# Altium integrated library WD Peripheral Data Encryption Processor.IntLib: 12 symbols
Pins are listed as number, name and electrical type; pins without a type are passive.

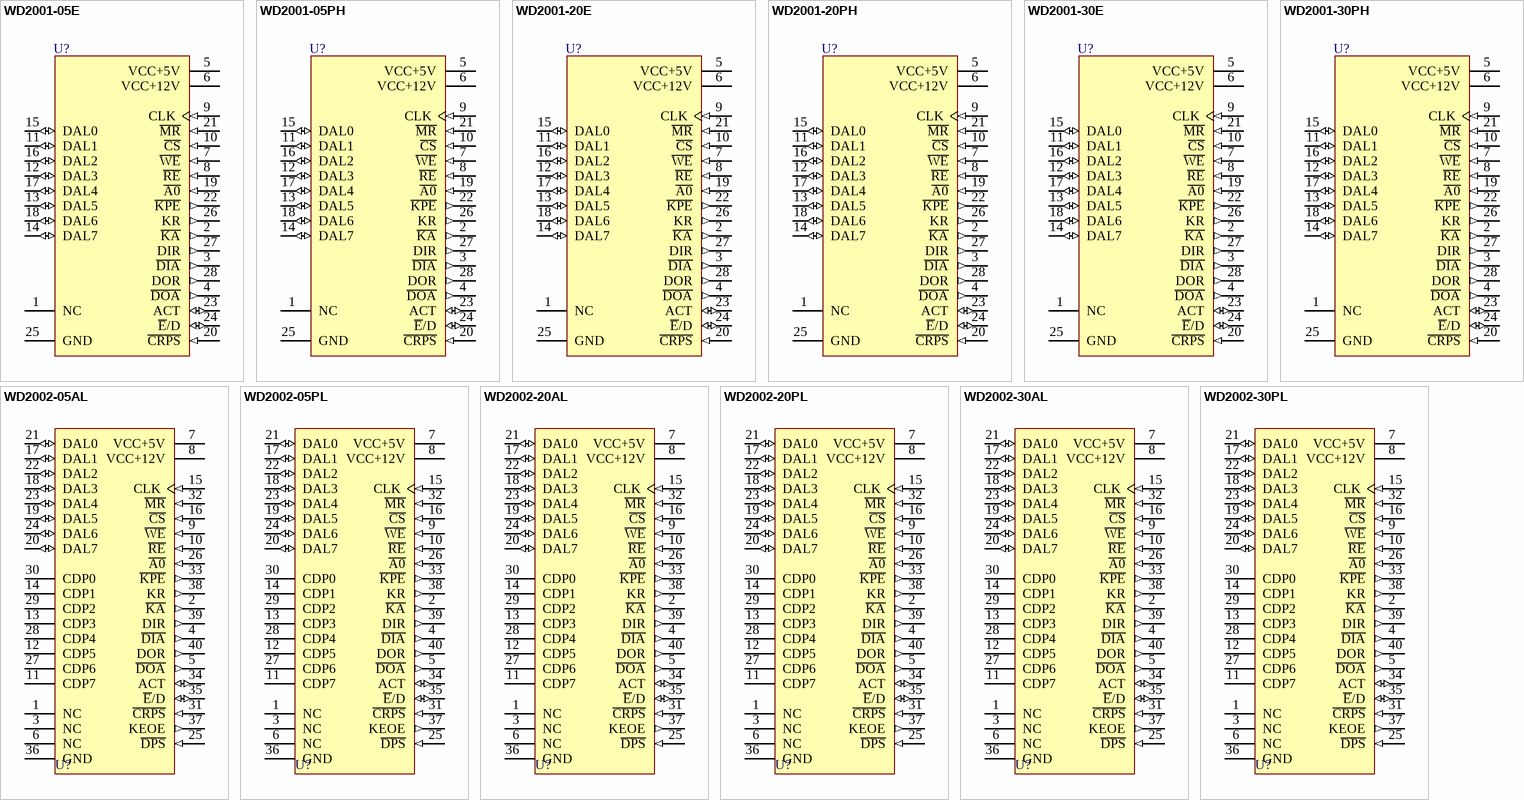
[diagram p0: symbols WD2001-05E to WD2002-30PL]

## WD2001-05E
designator U?
Data Encryption Device; PackageDocument: 1984; Published: 8-Jun-2000; LatestRevisionDate: 4-Mar-2005; LatestRevisionNote: Stylized 3D Model Added.; DatasheetDocument: 1984; PackageReference: E28; Publisher: Altium Limited; ComponentLink1Description: Manufacturer Link; ComponentLink1URL: http://www.wdc.com/
footprint E28 (DIP; 28 Leads; Row Spacing 15.24 mm; Pitch 2.54 mm)
3D model E28 (DIP; 28 Leads; Row Spacing 15.24 mm; Pitch 2.54 mm)
pins: 1 NC, 2 ~{KA} (out), 3 ~{DIA} (out), 4 ~{DOA} (out), 5 VCC+5V (power), 6 VCC+12V (power), 7 ~{WE} (in), 8 ~{RE} (in), 9 CLK (in), 10 ~{CS} (in), 11 DAL1 (io), 12 DAL3 (io), 13 DAL5 (io), 14 DAL7 (io), 15 DAL0 (io), 16 DAL2 (io), 17 DAL4 (io), 18 DAL6 (io), 19 ~{A0} (in), 20 ~{CRPS} (in), 21 ~{MR} (in), 22 ~{KPE} (out), 23 ACT (io), 24 ~{E}/D (io), 25 GND (power), 26 KR (out), 27 DIR (out), 28 DOR (out)

## WD2001-05PH
designator U?
Data Encryption Device; PackageDocument: 1984; Published: 8-Jun-2000; LatestRevisionDate: 4-Mar-2005; LatestRevisionNote: Stylized 3D Model Added.; DatasheetDocument: 1984; PackageReference: PH28; Publisher: Altium Limited; ComponentLink1Description: Manufacturer Link; ComponentLink1URL: http://www.wdc.com/
footprint PH28 (DIP; 28 Leads; Row Spacing 15.24 mm; Pitch 2.54 mm)
3D model PH28 (DIP; 28 Leads; Row Spacing 15.24 mm; Pitch 2.54 mm)
pins: 1 NC, 2 ~{KA} (out), 3 ~{DIA} (out), 4 ~{DOA} (out), 5 VCC+5V (power), 6 VCC+12V (power), 7 ~{WE} (in), 8 ~{RE} (in), 9 CLK (in), 10 ~{CS} (in), 11 DAL1 (io), 12 DAL3 (io), 13 DAL5 (io), 14 DAL7 (io), 15 DAL0 (io), 16 DAL2 (io), 17 DAL4 (io), 18 DAL6 (io), 19 ~{A0} (in), 20 ~{CRPS} (in), 21 ~{MR} (in), 22 ~{KPE} (out), 23 ACT (io), 24 ~{E}/D (io), 25 GND (power), 26 KR (out), 27 DIR (out), 28 DOR (out)

## WD2001-20E
designator U?
Data Encryption Device; PackageDocument: 1984; Published: 8-Jun-2000; LatestRevisionDate: 4-Mar-2005; LatestRevisionNote: Stylized 3D Model Added.; DatasheetDocument: 1984; PackageReference: E28; Publisher: Altium Limited; ComponentLink1Description: Manufacturer Link; ComponentLink1URL: http://www.wdc.com/
footprint E28 (DIP; 28 Leads; Row Spacing 15.24 mm; Pitch 2.54 mm)
3D model E28 (DIP; 28 Leads; Row Spacing 15.24 mm; Pitch 2.54 mm)
pins: 1 NC, 2 ~{KA} (out), 3 ~{DIA} (out), 4 ~{DOA} (out), 5 VCC+5V (power), 6 VCC+12V (power), 7 ~{WE} (in), 8 ~{RE} (in), 9 CLK (in), 10 ~{CS} (in), 11 DAL1 (io), 12 DAL3 (io), 13 DAL5 (io), 14 DAL7 (io), 15 DAL0 (io), 16 DAL2 (io), 17 DAL4 (io), 18 DAL6 (io), 19 ~{A0} (in), 20 ~{CRPS} (in), 21 ~{MR} (in), 22 ~{KPE} (out), 23 ACT (io), 24 ~{E}/D (io), 25 GND (power), 26 KR (out), 27 DIR (out), 28 DOR (out)

## WD2001-20PH
designator U?
Data Encryption Device; PackageDocument: 1984; Published: 8-Jun-2000; LatestRevisionDate: 4-Mar-2005; LatestRevisionNote: Stylized 3D Model Added.; DatasheetDocument: 1984; PackageReference: PH28; Publisher: Altium Limited; ComponentLink1Description: Manufacturer Link; ComponentLink1URL: http://www.wdc.com/
footprint PH28 (DIP; 28 Leads; Row Spacing 15.24 mm; Pitch 2.54 mm)
3D model PH28 (DIP; 28 Leads; Row Spacing 15.24 mm; Pitch 2.54 mm)
pins: 1 NC, 2 ~{KA} (out), 3 ~{DIA} (out), 4 ~{DOA} (out), 5 VCC+5V (power), 6 VCC+12V (power), 7 ~{WE} (in), 8 ~{RE} (in), 9 CLK (in), 10 ~{CS} (in), 11 DAL1 (io), 12 DAL3 (io), 13 DAL5 (io), 14 DAL7 (io), 15 DAL0 (io), 16 DAL2 (io), 17 DAL4 (io), 18 DAL6 (io), 19 ~{A0} (in), 20 ~{CRPS} (in), 21 ~{MR} (in), 22 ~{KPE} (out), 23 ACT (io), 24 ~{E}/D (io), 25 GND (power), 26 KR (out), 27 DIR (out), 28 DOR (out)

## WD2001-30E
designator U?
Data Encryption Device; PackageDocument: 1984; Published: 8-Jun-2000; LatestRevisionDate: 4-Mar-2005; LatestRevisionNote: Stylized 3D Model Added.; DatasheetDocument: 1984; PackageReference: E28; Publisher: Altium Limited; ComponentLink1Description: Manufacturer Link; ComponentLink1URL: http://www.wdc.com/
footprint E28 (DIP; 28 Leads; Row Spacing 15.24 mm; Pitch 2.54 mm)
3D model E28 (DIP; 28 Leads; Row Spacing 15.24 mm; Pitch 2.54 mm)
pins: 1 NC, 2 ~{KA} (out), 3 ~{DIA} (out), 4 ~{DOA} (out), 5 VCC+5V (power), 6 VCC+12V (power), 7 ~{WE} (in), 8 ~{RE} (in), 9 CLK (in), 10 ~{CS} (in), 11 DAL1 (io), 12 DAL3 (io), 13 DAL5 (io), 14 DAL7 (io), 15 DAL0 (io), 16 DAL2 (io), 17 DAL4 (io), 18 DAL6 (io), 19 ~{A0} (in), 20 ~{CRPS} (in), 21 ~{MR} (in), 22 ~{KPE} (out), 23 ACT (io), 24 ~{E}/D (io), 25 GND (power), 26 KR (out), 27 DIR (out), 28 DOR (out)

## WD2001-30PH
designator U?
Data Encryption Device; PackageDocument: 1984; Published: 8-Jun-2000; LatestRevisionDate: 4-Mar-2005; LatestRevisionNote: Stylized 3D Model Added.; DatasheetDocument: 1984; PackageReference: PH28; Publisher: Altium Limited; ComponentLink1Description: Manufacturer Link; ComponentLink1URL: http://www.wdc.com/
footprint PH28 (DIP; 28 Leads; Row Spacing 15.24 mm; Pitch 2.54 mm)
3D model PH28 (DIP; 28 Leads; Row Spacing 15.24 mm; Pitch 2.54 mm)
pins: 1 NC, 2 ~{KA} (out), 3 ~{DIA} (out), 4 ~{DOA} (out), 5 VCC+5V (power), 6 VCC+12V (power), 7 ~{WE} (in), 8 ~{RE} (in), 9 CLK (in), 10 ~{CS} (in), 11 DAL1 (io), 12 DAL3 (io), 13 DAL5 (io), 14 DAL7 (io), 15 DAL0 (io), 16 DAL2 (io), 17 DAL4 (io), 18 DAL6 (io), 19 ~{A0} (in), 20 ~{CRPS} (in), 21 ~{MR} (in), 22 ~{KPE} (out), 23 ACT (io), 24 ~{E}/D (io), 25 GND (power), 26 KR (out), 27 DIR (out), 28 DOR (out)

## WD2002-05AL
designator U?
Data Encryption Device; PackageDocument: 1984; Published: 8-Jun-2000; LatestRevisionDate: 4-Mar-2005; LatestRevisionNote: Stylized 3D Model Added.; DatasheetDocument: 1984; PackageReference: AL40; Publisher: Altium Limited; ComponentLink1Description: Manufacturer Link; ComponentLink1URL: http://www.wdc.com/
footprint AL40 (DIP; 40 Leads; Row Spacing 15.24 mm; Pitch 2.54 mm)
3D model AL40 (DIP; 40 Leads; Row Spacing 15.24 mm; Pitch 2.54 mm)
pins: 1 NC, 2 ~{KA} (out), 3 NC, 4 ~{DIA} (out), 5 ~{DOA} (out), 6 NC, 7 VCC+5V (power), 8 VCC+12V (power), 9 ~{WE} (in), 10 ~{RE} (in), 11 CDP7 (hiz), 12 CDP5 (hiz), 13 CDP3 (hiz), 14 CDP1 (hiz), 15 CLK (in), 16 ~{CS} (in), 17 DAL1 (io), 18 DAL3 (io), 19 DAL5 (io), 20 DAL7 (io), 21 DAL0 (io), 22 DAL2 (io), 23 DAL4 (io), 24 DAL6 (io), 25 ~{DPS} (in), 26 ~{A0} (in), 27 CDP6 (hiz), 28 CDP4 (hiz), 29 CDP2 (hiz), 30 CDP0 (hiz), 31 ~{CRPS} (in), 32 ~{MR} (in), 33 ~{KPE} (out), 34 ACT (io), 35 ~{E}/D (io), 36 GND (power), 37 KEOE (out), 38 KR (out), 39 DIR (out), 40 DOR (out)

## WD2002-05PL
designator U?
Data Encryption Device; PackageDocument: 1984; Published: 8-Jun-2000; LatestRevisionDate: 4-Mar-2005; LatestRevisionNote: Stylized 3D Model Added.; DatasheetDocument: 1984; PackageReference: PL40; Publisher: Altium Limited; ComponentLink1Description: Manufacturer Link; ComponentLink1URL: http://www.wdc.com/
footprint PL40 (DIP; 40 Leads; Row Spacing 15.24 mm; Pitch 2.54 mm)
3D model PL40 (DIP; 40 Leads; Row Spacing 15.24 mm; Pitch 2.54 mm)
pins: 1 NC, 2 ~{KA} (out), 3 NC, 4 ~{DIA} (out), 5 ~{DOA} (out), 6 NC, 7 VCC+5V (power), 8 VCC+12V (power), 9 ~{WE} (in), 10 ~{RE} (in), 11 CDP7 (hiz), 12 CDP5 (hiz), 13 CDP3 (hiz), 14 CDP1 (hiz), 15 CLK (in), 16 ~{CS} (in), 17 DAL1 (io), 18 DAL3 (io), 19 DAL5 (io), 20 DAL7 (io), 21 DAL0 (io), 22 DAL2 (io), 23 DAL4 (io), 24 DAL6 (io), 25 ~{DPS} (in), 26 ~{A0} (in), 27 CDP6 (hiz), 28 CDP4 (hiz), 29 CDP2 (hiz), 30 CDP0 (hiz), 31 ~{CRPS} (in), 32 ~{MR} (in), 33 ~{KPE} (out), 34 ACT (io), 35 ~{E}/D (io), 36 GND (power), 37 KEOE (out), 38 KR (out), 39 DIR (out), 40 DOR (out)

## WD2002-20AL
designator U?
Data Encryption Device; PackageDocument: 1984; Published: 8-Jun-2000; LatestRevisionDate: 4-Mar-2005; LatestRevisionNote: Stylized 3D Model Added.; DatasheetDocument: 1984; PackageReference: AL40; Publisher: Altium Limited; ComponentLink1Description: Manufacturer Link; ComponentLink1URL: http://www.wdc.com/
footprint AL40 (DIP; 40 Leads; Row Spacing 15.24 mm; Pitch 2.54 mm)
3D model AL40 (DIP; 40 Leads; Row Spacing 15.24 mm; Pitch 2.54 mm)
pins: 1 NC, 2 ~{KA} (out), 3 NC, 4 ~{DIA} (out), 5 ~{DOA} (out), 6 NC, 7 VCC+5V (power), 8 VCC+12V (power), 9 ~{WE} (in), 10 ~{RE} (in), 11 CDP7 (hiz), 12 CDP5 (hiz), 13 CDP3 (hiz), 14 CDP1 (hiz), 15 CLK (in), 16 ~{CS} (in), 17 DAL1 (io), 18 DAL3 (io), 19 DAL5 (io), 20 DAL7 (io), 21 DAL0 (io), 22 DAL2 (io), 23 DAL4 (io), 24 DAL6 (io), 25 ~{DPS} (in), 26 ~{A0} (in), 27 CDP6 (hiz), 28 CDP4 (hiz), 29 CDP2 (hiz), 30 CDP0 (hiz), 31 ~{CRPS} (in), 32 ~{MR} (in), 33 ~{KPE} (out), 34 ACT (io), 35 ~{E}/D (io), 36 GND (power), 37 KEOE (out), 38 KR (out), 39 DIR (out), 40 DOR (out)

## WD2002-20PL
designator U?
Data Encryption Device; PackageDocument: 1984; Published: 8-Jun-2000; LatestRevisionDate: 4-Mar-2005; LatestRevisionNote: Stylized 3D Model Added.; DatasheetDocument: 1984; PackageReference: PL40; Publisher: Altium Limited; ComponentLink1Description: Manufacturer Link; ComponentLink1URL: http://www.wdc.com/
footprint PL40 (DIP; 40 Leads; Row Spacing 15.24 mm; Pitch 2.54 mm)
3D model PL40 (DIP; 40 Leads; Row Spacing 15.24 mm; Pitch 2.54 mm)
pins: 1 NC, 2 ~{KA} (out), 3 NC, 4 ~{DIA} (out), 5 ~{DOA} (out), 6 NC, 7 VCC+5V (power), 8 VCC+12V (power), 9 ~{WE} (in), 10 ~{RE} (in), 11 CDP7 (hiz), 12 CDP5 (hiz), 13 CDP3 (hiz), 14 CDP1 (hiz), 15 CLK (in), 16 ~{CS} (in), 17 DAL1 (io), 18 DAL3 (io), 19 DAL5 (io), 20 DAL7 (io), 21 DAL0 (io), 22 DAL2 (io), 23 DAL4 (io), 24 DAL6 (io), 25 ~{DPS} (in), 26 ~{A0} (in), 27 CDP6 (hiz), 28 CDP4 (hiz), 29 CDP2 (hiz), 30 CDP0 (hiz), 31 ~{CRPS} (in), 32 ~{MR} (in), 33 ~{KPE} (out), 34 ACT (io), 35 ~{E}/D (io), 36 GND (power), 37 KEOE (out), 38 KR (out), 39 DIR (out), 40 DOR (out)

## WD2002-30AL
designator U?
Data Encryption Device; PackageDocument: 1984; Published: 8-Jun-2000; LatestRevisionDate: 4-Mar-2005; LatestRevisionNote: Stylized 3D Model Added.; DatasheetDocument: 1984; PackageReference: AL40; Publisher: Altium Limited; ComponentLink1Description: Manufacturer Link; ComponentLink1URL: http://www.wdc.com/
footprint AL40 (DIP; 40 Leads; Row Spacing 15.24 mm; Pitch 2.54 mm)
3D model AL40 (DIP; 40 Leads; Row Spacing 15.24 mm; Pitch 2.54 mm)
pins: 1 NC, 2 ~{KA} (out), 3 NC, 4 ~{DIA} (out), 5 ~{DOA} (out), 6 NC, 7 VCC+5V (power), 8 VCC+12V (power), 9 ~{WE} (in), 10 ~{RE} (in), 11 CDP7 (hiz), 12 CDP5 (hiz), 13 CDP3 (hiz), 14 CDP1 (hiz), 15 CLK (in), 16 ~{CS} (in), 17 DAL1 (io), 18 DAL3 (io), 19 DAL5 (io), 20 DAL7 (io), 21 DAL0 (io), 22 DAL2 (io), 23 DAL4 (io), 24 DAL6 (io), 25 ~{DPS} (in), 26 ~{A0} (in), 27 CDP6 (hiz), 28 CDP4 (hiz), 29 CDP2 (hiz), 30 CDP0 (hiz), 31 ~{CRPS} (in), 32 ~{MR} (in), 33 ~{KPE} (out), 34 ACT (io), 35 ~{E}/D (io), 36 GND (power), 37 KEOE (out), 38 KR (out), 39 DIR (out), 40 DOR (out)

## WD2002-30PL
designator U?
Data Encryption Device; PackageDocument: 1984; Published: 8-Jun-2000; LatestRevisionDate: 4-Mar-2005; LatestRevisionNote: Stylized 3D Model Added.; DatasheetDocument: 1984; PackageReference: PL40; Publisher: Altium Limited; ComponentLink1Description: Manufacturer Link; ComponentLink1URL: http://www.wdc.com/
footprint PL40 (DIP; 40 Leads; Row Spacing 15.24 mm; Pitch 2.54 mm)
3D model PL40 (DIP; 40 Leads; Row Spacing 15.24 mm; Pitch 2.54 mm)
pins: 1 NC, 2 ~{KA} (out), 3 NC, 4 ~{DIA} (out), 5 ~{DOA} (out), 6 NC, 7 VCC+5V (power), 8 VCC+12V (power), 9 ~{WE} (in), 10 ~{RE} (in), 11 CDP7 (hiz), 12 CDP5 (hiz), 13 CDP3 (hiz), 14 CDP1 (hiz), 15 CLK (in), 16 ~{CS} (in), 17 DAL1 (io), 18 DAL3 (io), 19 DAL5 (io), 20 DAL7 (io), 21 DAL0 (io), 22 DAL2 (io), 23 DAL4 (io), 24 DAL6 (io), 25 ~{DPS} (in), 26 ~{A0} (in), 27 CDP6 (hiz), 28 CDP4 (hiz), 29 CDP2 (hiz), 30 CDP0 (hiz), 31 ~{CRPS} (in), 32 ~{MR} (in), 33 ~{KPE} (out), 34 ACT (io), 35 ~{E}/D (io), 36 GND (power), 37 KEOE (out), 38 KR (out), 39 DIR (out), 40 DOR (out)